# Altium schematic symbol library NFET_SOT323.SchLib: 1 symbol
Pins are listed as number, name and electrical type; pins without a type are passive.

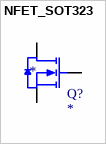
[diagram p0: symbol NFET_SOT323]

## NFET_SOT323
designator Q?
Manufacturer Part Number: *
pins: D, G, S